# Altium schematic symbol library 0530470410.SchLib: 1 symbol
Pins are listed as number, name and electrical type; pins without a type are passive.

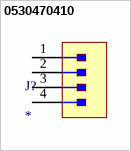
[diagram p0: symbol 0530470410]

## 0530470410
designator J?
=Description; Manufacturer: *; Part Number: *; Number of Positions: *; Number of Rows: *; Current Rating: *; ComponentLink1Description: Datasheet; Voltage Rating: *; Fastening Type: *; Orientation: *; Gender: *; Max Operating Temperature: *; Min Operating Temperature: *
pins: 1, 2, 3, 4